# Altium integrated library Cypress USB Controllers.IntLib: 169 symbols (part 7 of 16)
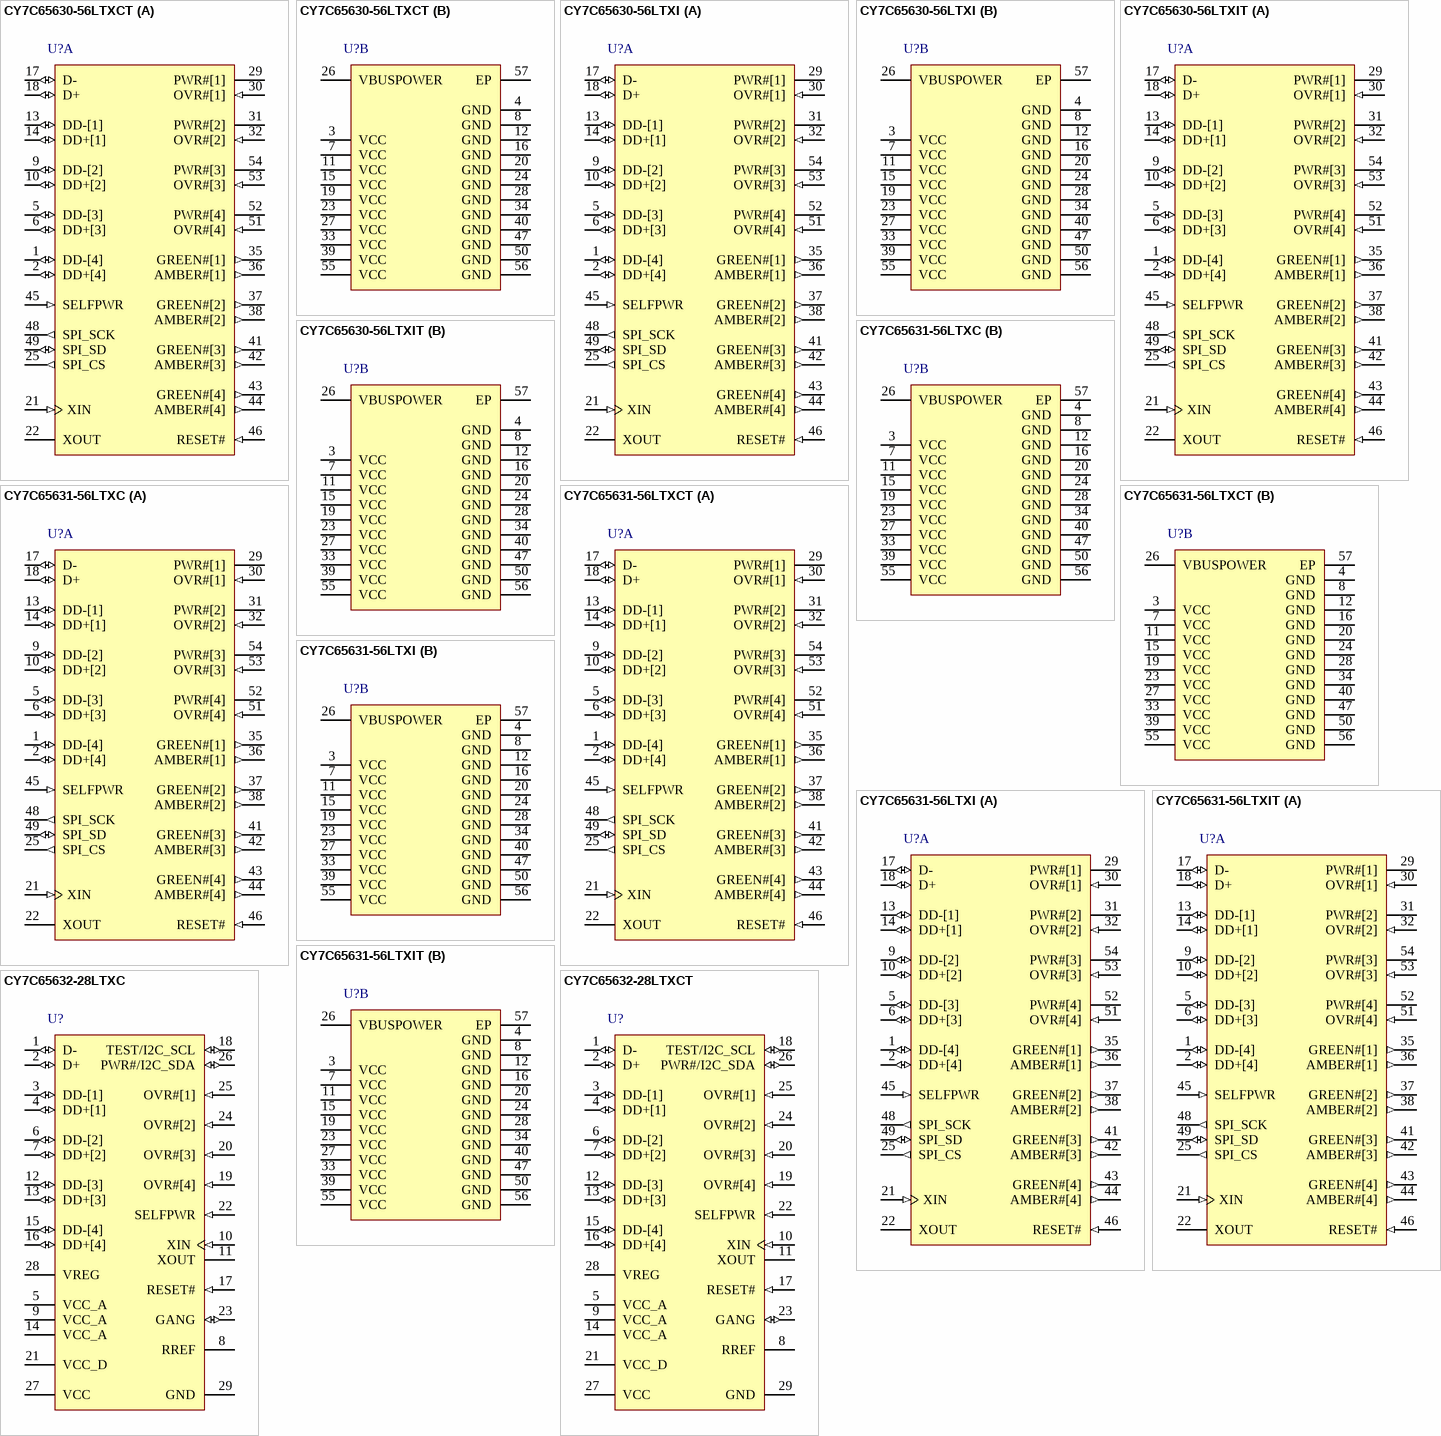
[diagram p28: symbols CY7C65630-56LTXCT to CY7C65632-28LTXCT]

## CY7C65631-56LTXCT
designator U?
EZ-USB HX2LP Lite(TM) Low Power USB 2.0 Hub Controller Family, 4 Hub Ports, 3.15 to 3.45 V, 0 to 70 degC, 56-Pin QFN (LTX56), Tape and Reel; Manufacturer: Cypress; PartNumber: CY7C65631-56LTXCT; Max. Operating Voltage (V): 3.45; Min. Operating Voltage (V): 3.15; No. of Hub Ports: 4; Single/Multi TT: Single; DatasheetVersion: Rev. *F; PackageVersion: Rev. *F; PackageReference: LTX56; PackageDescription: 56-Pin Sawn QFN, Body 8 x 8 mm, Pitch 0.5 mm; Supplier 1: Digi-Key; Supplier Part Number 1: CY7C65631-56LTXCT-ND; Supplier 2: Mouser; Supplier Part Number 2: 727-7C6563156LTXCT; Max. Operating Temp. (degreesC): 70; Min. Operating Temp. (degreesC): 0; Packing: Tape and Reel; RoHS: Pb-Free; Mounting Technology: Surface Mount; Code_JEDEC: MO-220; ComponentLink1Description: Manufacturer URL; ComponentLink1URL: http://www.cypress.com/; ComponentLink2Description: Datasheet; ComponentLink2URL: http://www.cypress.com/?docID=41770; ComponentLink3Description: Package Specification; ComponentLink3URL: http://www.cypress.com/?docID=45022
footprint CYP-LTX56-6100X6100TP_N (QFN, 56-Leads, Body 8.1x8.1mm, Pitch 0.5mm, Thermal Pad 6.1x6.1mm, IPC Medium Density)
footprint CYP-LTX56-6100X6100TP_L (QFN, 56-Leads, Body 8.1x8.1mm, Pitch 0.5mm, Thermal Pad 6.1x6.1mm, IPC High Density)
footprint CYP-LTX56-6100X6100TP_M (QFN, 56-Leads, Body 8.1x8.1mm, Pitch 0.5mm, Thermal Pad 6.1x6.1mm, IPC Low Density)
part A pins: 1 DD-[4] (io) "Downstream D- Signal.", 2 DD+[4] (io) "Downstream D+ Signal.", 5 DD-[3] (io) "Downstream D- Signal.", 6 DD+[3] (io) "Downstream D+ Signal.", 9 DD-[2] (io) "Downstream D- Signal.", 10 DD+[2] (io) "Downstream D+ Signal.", 13 DD-[1] (io) "Downstream D- Signal.", 14 DD+[1] (io) "Downstream D+ Signal.", 17 D- (io) "Upstream D- Signal.", 18 D+ (io) "Upstream D+ Signal.", 21 XIN (in) "24 MHz Crystal IN or external Clock Input.", 22 XOUT "24 MHz Crystal OUT. (NC if external clock is used)", 25 SPI_CS (out) "SPI Chip Select. Connect to CS pin of the EEPROM.", 29 PWR#[1] (hiz) "Power Switch Driver Output. Default is active LOW. Polarity is controlled through EEPROM.", 30 OVR#[1] (in) "Overcurrent Condition Detection Input. Default is active LOW. Polarity is controlled through EEPROM.", 31 PWR#[2] (hiz) "Power Switch Driver Output. Default is active LOW. Polarity is controlled through EEPROM.", 32 OVR#[2] (in) "Overcurrent Condition Detection Input. Default is active LOW. Polarity is controlled through EEPROM.", 35 GREEN#[1] (out) "LED. Driver output for amber LED. Port indicator support. Default is active LOW. Polarity is controlled through EEPROM.", 36 AMBER#[1] (out) "LED. Driver output for amber LED. Port indicator support. Default is active LOW. Polarity is controlled through EEPROM.", 37 GREEN#[2] (out) "LED. Driver output for green LED. Port indicator support. Default is active LOW. Polarity is controlled through EEPROM.", 38 AMBER#[2] (out) "LED. Driver output for amber LED. Port indicator support. Default is active LOW. Polarity is controlled through EEPROM.", 41 GREEN#[3] (out) "LED. Driver output for green LED. Port indicator support. Default is active LOW. Polarity is controlled through EEPROM.", 42 AMBER#[3] (out) "LED. Driver output for amber LED. Port indicator support. Default is active LOW. Polarity is controlled through EEPROM.", 43 GREEN#[4] (out) "LED. Driver output for green LED. Port indicator support.Default is active LOW. Polarity is controlled through EEPROM.", 44 AMBER#[4] (out) "LED. Driver output for amber LED. Port indicator support. Default is active LOW. Polarity is controlled through EEPROM.", 45 SELFPWR (in) "Self Power. Indicator for bus or self powered. 0 is bus powered, 1 is self powered.", 46 RESET# (in) "Active LOW Reset. This pin resets the entire chip. It is normally tied to VCC through a 100K resistor, and to GND through a 0.1 uF capacitor. Other than this, no other special power up procedure is required.", 48 SPI_SCK (out) "SPI Clock. Connect to EEPROM SCK pin.", 49 SPI_SD (io) "SPI Dataline Connect to GND with 15 kW resistor and to the Data I/O pin of the EEPROM.", 51 OVR#[4] (in) "Overcurrent Condition Detection Input. Default is Active LOW. Polarity is controlled through EEPROM.", 52 PWR#[4] (hiz) "Power Switch Driver Output. Default is active LOW. Polarity is controlled through EEPROM.", 53 OVR#[3] (in) "Overcurrent Condition Detection Input. Default is Active LOW. Polarity is controlled through EEPROM.", 54 PWR#[3] (hiz) "Power Switch Driver Output. Default is active LOW. Polarity is controlled through EEPROM."
part B pins: 3 VCC (power) "VCC. This signal provides power to the chip.", 4 GND (power) "GND. Connect to ground with as short a path as possible.", 7 VCC (power) "VCC. This signal provides power to the chip.", 8 GND (power) "GND. Connect to ground with as short a path as possible.", 11 VCC (power) "VCC. This signal provides power to the chip.", 12 GND (power) "GND. Connect to ground with as short a path as possible.", 15 VCC (power) "VCC. This signal provides power to the chip.", 16 GND (power) "GND. Connect to ground with as short a path as possible.", 19 VCC (power) "VCC. This signal provides power to the chip.", 20 GND (power) "GND. Connect to ground with as short a path as possible.", 23 VCC (power) "VCC. This signal provides power to the chip.", 24 GND (power) "GND. Connect to ground with as short a path as possible.", 26 VBUSPOWER (power) "VBUS. Connect to the VBUS pin of the upstream connector. This signal indicates to the hub that it is in a connected state, and may enable the D+ pull up resistor to indicate a connection. (The hub does so after the external (See Datasheet)", 27 VCC (power) "VCC. This signal provides power to the chip.", 28 GND (power) "GND. Connect to ground with as short a path as possible.", 33 VCC (power) "VCC. This signal provides power to the chip.", 34 GND (power) "GND. Connect to ground with as short a path as possible.", 39 VCC (power) "VCC. This signal provides power to the chip.", 40 GND (power) "GND. Connect to ground with as short a path as possible.", 47 GND (power) "GND. Connect to ground with as short a path as possible.", 50 GND (power) "GND. Connect to ground with as short a path as possible.", 55 VCC (power) "VCC. This signal provides power to the chip.", 56 GND (power) "GND. Connect to ground with as short a path as possible.", 57 EP

## CY7C65631-56LTXI
designator U?
EZ-USB HX2LP Lite(TM) Low Power USB 2.0 Hub Controller Family, 4 Hub Ports, 3.15 to 3.45 V, -40 to 85 degC, 56-Pin QFN (LTX56), Tube; Manufacturer: Cypress; PartNumber: CY7C65631-56LTXI; Max. Operating Voltage (V): 3.45; Min. Operating Voltage (V): 3.15; No. of Hub Ports: 4; Single/Multi TT: Single; DatasheetVersion: Rev. *F; PackageVersion: Rev. *F; PackageReference: LTX56; PackageDescription: 56-Pin Sawn QFN, Body 8 x 8 mm, Pitch 0.5 mm; Supplier 1: Digi-Key; Supplier Part Number 1: 428-3309-ND; Supplier 2: Newark; Supplier Part Number 2: 69W1656; Supplier 3: Mouser; Supplier Part Number 3: 727-CY7C65631-56LTXI; Max. Operating Temp. (degreesC): 85; Min. Operating Temp. (degreesC): -40; Packing: Tube; RoHS: Pb-Free; Mounting Technology: Surface Mount; Code_JEDEC: MO-220; ComponentLink1Description: Manufacturer URL; ComponentLink1URL: http://www.cypress.com/; ComponentLink2Description: Datasheet; ComponentLink2URL: http://www.cypress.com/?docID=41770; ComponentLink3Description: Package Specification; ComponentLink3URL: http://www.cypress.com/?docID=45022
footprint CYP-LTX56-6100X6100TP_N (QFN, 56-Leads, Body 8.1x8.1mm, Pitch 0.5mm, Thermal Pad 6.1x6.1mm, IPC Medium Density)
footprint CYP-LTX56-6100X6100TP_L (QFN, 56-Leads, Body 8.1x8.1mm, Pitch 0.5mm, Thermal Pad 6.1x6.1mm, IPC High Density)
footprint CYP-LTX56-6100X6100TP_M (QFN, 56-Leads, Body 8.1x8.1mm, Pitch 0.5mm, Thermal Pad 6.1x6.1mm, IPC Low Density)
part A pins: 1 DD-[4] (io) "Downstream D- Signal.", 2 DD+[4] (io) "Downstream D+ Signal.", 5 DD-[3] (io) "Downstream D- Signal.", 6 DD+[3] (io) "Downstream D+ Signal.", 9 DD-[2] (io) "Downstream D- Signal.", 10 DD+[2] (io) "Downstream D+ Signal.", 13 DD-[1] (io) "Downstream D- Signal.", 14 DD+[1] (io) "Downstream D+ Signal.", 17 D- (io) "Upstream D- Signal.", 18 D+ (io) "Upstream D+ Signal.", 21 XIN (in) "24 MHz Crystal IN or external Clock Input.", 22 XOUT "24 MHz Crystal OUT. (NC if external clock is used)", 25 SPI_CS (out) "SPI Chip Select. Connect to CS pin of the EEPROM.", 29 PWR#[1] (hiz) "Power Switch Driver Output. Default is active LOW. Polarity is controlled through EEPROM.", 30 OVR#[1] (in) "Overcurrent Condition Detection Input. Default is active LOW. Polarity is controlled through EEPROM.", 31 PWR#[2] (hiz) "Power Switch Driver Output. Default is active LOW. Polarity is controlled through EEPROM.", 32 OVR#[2] (in) "Overcurrent Condition Detection Input. Default is active LOW. Polarity is controlled through EEPROM.", 35 GREEN#[1] (out) "LED. Driver output for amber LED. Port indicator support. Default is active LOW. Polarity is controlled through EEPROM.", 36 AMBER#[1] (out) "LED. Driver output for amber LED. Port indicator support. Default is active LOW. Polarity is controlled through EEPROM.", 37 GREEN#[2] (out) "LED. Driver output for green LED. Port indicator support. Default is active LOW. Polarity is controlled through EEPROM.", 38 AMBER#[2] (out) "LED. Driver output for amber LED. Port indicator support. Default is active LOW. Polarity is controlled through EEPROM.", 41 GREEN#[3] (out) "LED. Driver output for green LED. Port indicator support. Default is active LOW. Polarity is controlled through EEPROM.", 42 AMBER#[3] (out) "LED. Driver output for amber LED. Port indicator support. Default is active LOW. Polarity is controlled through EEPROM.", 43 GREEN#[4] (out) "LED. Driver output for green LED. Port indicator support.Default is active LOW. Polarity is controlled through EEPROM.", 44 AMBER#[4] (out) "LED. Driver output for amber LED. Port indicator support. Default is active LOW. Polarity is controlled through EEPROM.", 45 SELFPWR (in) "Self Power. Indicator for bus or self powered. 0 is bus powered, 1 is self powered.", 46 RESET# (in) "Active LOW Reset. This pin resets the entire chip. It is normally tied to VCC through a 100K resistor, and to GND through a 0.1 uF capacitor. Other than this, no other special power up procedure is required.", 48 SPI_SCK (out) "SPI Clock. Connect to EEPROM SCK pin.", 49 SPI_SD (io) "SPI Dataline Connect to GND with 15 kW resistor and to the Data I/O pin of the EEPROM.", 51 OVR#[4] (in) "Overcurrent Condition Detection Input. Default is Active LOW. Polarity is controlled through EEPROM.", 52 PWR#[4] (hiz) "Power Switch Driver Output. Default is active LOW. Polarity is controlled through EEPROM.", 53 OVR#[3] (in) "Overcurrent Condition Detection Input. Default is Active LOW. Polarity is controlled through EEPROM.", 54 PWR#[3] (hiz) "Power Switch Driver Output. Default is active LOW. Polarity is controlled through EEPROM."
part B pins: 3 VCC (power) "VCC. This signal provides power to the chip.", 4 GND (power) "GND. Connect to ground with as short a path as possible.", 7 VCC (power) "VCC. This signal provides power to the chip.", 8 GND (power) "GND. Connect to ground with as short a path as possible.", 11 VCC (power) "VCC. This signal provides power to the chip.", 12 GND (power) "GND. Connect to ground with as short a path as possible.", 15 VCC (power) "VCC. This signal provides power to the chip.", 16 GND (power) "GND. Connect to ground with as short a path as possible.", 19 VCC (power) "VCC. This signal provides power to the chip.", 20 GND (power) "GND. Connect to ground with as short a path as possible.", 23 VCC (power) "VCC. This signal provides power to the chip.", 24 GND (power) "GND. Connect to ground with as short a path as possible.", 26 VBUSPOWER (power) "VBUS. Connect to the VBUS pin of the upstream connector. This signal indicates to the hub that it is in a connected state, and may enable the D+ pull up resistor to indicate a connection. (The hub does so after the external (See Datasheet)", 27 VCC (power) "VCC. This signal provides power to the chip.", 28 GND (power) "GND. Connect to ground with as short a path as possible.", 33 VCC (power) "VCC. This signal provides power to the chip.", 34 GND (power) "GND. Connect to ground with as short a path as possible.", 39 VCC (power) "VCC. This signal provides power to the chip.", 40 GND (power) "GND. Connect to ground with as short a path as possible.", 47 GND (power) "GND. Connect to ground with as short a path as possible.", 50 GND (power) "GND. Connect to ground with as short a path as possible.", 55 VCC (power) "VCC. This signal provides power to the chip.", 56 GND (power) "GND. Connect to ground with as short a path as possible.", 57 EP

## CY7C65631-56LTXIT
designator U?
EZ-USB HX2LP Lite(TM) Low Power USB 2.0 Hub Controller Family, 4 Hub Ports, 3.15 to 3.45 V, -40 to 85 degC, 56-Pin QFN (LTX56), Tape and Reel; Manufacturer: Cypress; PartNumber: CY7C65631-56LTXIT; Max. Operating Voltage (V): 3.45; Min. Operating Voltage (V): 3.15; No. of Hub Ports: 4; Single/Multi TT: Single; DatasheetVersion: Rev. *F; PackageVersion: Rev. *F; PackageReference: LTX56; PackageDescription: 56-Pin Sawn QFN, Body 8 x 8 mm, Pitch 0.5 mm; Supplier 1: Digi-Key; Supplier Part Number 1: CY7C65631-56LTXIT-ND; Supplier 2: Mouser; Supplier Part Number 2: 727-CY7C6563156LTXIT; Max. Operating Temp. (degreesC): 85; Min. Operating Temp. (degreesC): -40; Packing: Tape and Reel; RoHS: Pb-Free; Mounting Technology: Surface Mount; Code_JEDEC: MO-220; ComponentLink1Description: Manufacturer URL; ComponentLink1URL: http://www.cypress.com/; ComponentLink2Description: Datasheet; ComponentLink2URL: http://www.cypress.com/?docID=41770; ComponentLink3Description: Package Specification; ComponentLink3URL: http://www.cypress.com/?docID=45022
footprint CYP-LTX56-6100X6100TP_N (QFN, 56-Leads, Body 8.1x8.1mm, Pitch 0.5mm, Thermal Pad 6.1x6.1mm, IPC Medium Density)
footprint CYP-LTX56-6100X6100TP_L (QFN, 56-Leads, Body 8.1x8.1mm, Pitch 0.5mm, Thermal Pad 6.1x6.1mm, IPC High Density)
footprint CYP-LTX56-6100X6100TP_M (QFN, 56-Leads, Body 8.1x8.1mm, Pitch 0.5mm, Thermal Pad 6.1x6.1mm, IPC Low Density)
part A pins: 1 DD-[4] (io) "Downstream D- Signal.", 2 DD+[4] (io) "Downstream D+ Signal.", 5 DD-[3] (io) "Downstream D- Signal.", 6 DD+[3] (io) "Downstream D+ Signal.", 9 DD-[2] (io) "Downstream D- Signal.", 10 DD+[2] (io) "Downstream D+ Signal.", 13 DD-[1] (io) "Downstream D- Signal.", 14 DD+[1] (io) "Downstream D+ Signal.", 17 D- (io) "Upstream D- Signal.", 18 D+ (io) "Upstream D+ Signal.", 21 XIN (in) "24 MHz Crystal IN or external Clock Input.", 22 XOUT "24 MHz Crystal OUT. (NC if external clock is used)", 25 SPI_CS (out) "SPI Chip Select. Connect to CS pin of the EEPROM.", 29 PWR#[1] (hiz) "Power Switch Driver Output. Default is active LOW. Polarity is controlled through EEPROM.", 30 OVR#[1] (in) "Overcurrent Condition Detection Input. Default is active LOW. Polarity is controlled through EEPROM.", 31 PWR#[2] (hiz) "Power Switch Driver Output. Default is active LOW. Polarity is controlled through EEPROM.", 32 OVR#[2] (in) "Overcurrent Condition Detection Input. Default is active LOW. Polarity is controlled through EEPROM.", 35 GREEN#[1] (out) "LED. Driver output for amber LED. Port indicator support. Default is active LOW. Polarity is controlled through EEPROM.", 36 AMBER#[1] (out) "LED. Driver output for amber LED. Port indicator support. Default is active LOW. Polarity is controlled through EEPROM.", 37 GREEN#[2] (out) "LED. Driver output for green LED. Port indicator support. Default is active LOW. Polarity is controlled through EEPROM.", 38 AMBER#[2] (out) "LED. Driver output for amber LED. Port indicator support. Default is active LOW. Polarity is controlled through EEPROM.", 41 GREEN#[3] (out) "LED. Driver output for green LED. Port indicator support. Default is active LOW. Polarity is controlled through EEPROM.", 42 AMBER#[3] (out) "LED. Driver output for amber LED. Port indicator support. Default is active LOW. Polarity is controlled through EEPROM.", 43 GREEN#[4] (out) "LED. Driver output for green LED. Port indicator support.Default is active LOW. Polarity is controlled through EEPROM.", 44 AMBER#[4] (out) "LED. Driver output for amber LED. Port indicator support. Default is active LOW. Polarity is controlled through EEPROM.", 45 SELFPWR (in) "Self Power. Indicator for bus or self powered. 0 is bus powered, 1 is self powered.", 46 RESET# (in) "Active LOW Reset. This pin resets the entire chip. It is normally tied to VCC through a 100K resistor, and to GND through a 0.1 uF capacitor. Other than this, no other special power up procedure is required.", 48 SPI_SCK (out) "SPI Clock. Connect to EEPROM SCK pin.", 49 SPI_SD (io) "SPI Dataline Connect to GND with 15 kW resistor and to the Data I/O pin of the EEPROM.", 51 OVR#[4] (in) "Overcurrent Condition Detection Input. Default is Active LOW. Polarity is controlled through EEPROM.", 52 PWR#[4] (hiz) "Power Switch Driver Output. Default is active LOW. Polarity is controlled through EEPROM.", 53 OVR#[3] (in) "Overcurrent Condition Detection Input. Default is Active LOW. Polarity is controlled through EEPROM.", 54 PWR#[3] (hiz) "Power Switch Driver Output. Default is active LOW. Polarity is controlled through EEPROM."
part B pins: 3 VCC (power) "VCC. This signal provides power to the chip.", 4 GND (power) "GND. Connect to ground with as short a path as possible.", 7 VCC (power) "VCC. This signal provides power to the chip.", 8 GND (power) "GND. Connect to ground with as short a path as possible.", 11 VCC (power) "VCC. This signal provides power to the chip.", 12 GND (power) "GND. Connect to ground with as short a path as possible.", 15 VCC (power) "VCC. This signal provides power to the chip.", 16 GND (power) "GND. Connect to ground with as short a path as possible.", 19 VCC (power) "VCC. This signal provides power to the chip.", 20 GND (power) "GND. Connect to ground with as short a path as possible.", 23 VCC (power) "VCC. This signal provides power to the chip.", 24 GND (power) "GND. Connect to ground with as short a path as possible.", 26 VBUSPOWER (power) "VBUS. Connect to the VBUS pin of the upstream connector. This signal indicates to the hub that it is in a connected state, and may enable the D+ pull up resistor to indicate a connection. (The hub does so after the external (See Datasheet)", 27 VCC (power) "VCC. This signal provides power to the chip.", 28 GND (power) "GND. Connect to ground with as short a path as possible.", 33 VCC (power) "VCC. This signal provides power to the chip.", 34 GND (power) "GND. Connect to ground with as short a path as possible.", 39 VCC (power) "VCC. This signal provides power to the chip.", 40 GND (power) "GND. Connect to ground with as short a path as possible.", 47 GND (power) "GND. Connect to ground with as short a path as possible.", 50 GND (power) "GND. Connect to ground with as short a path as possible.", 55 VCC (power) "VCC. This signal provides power to the chip.", 56 GND (power) "GND. Connect to ground with as short a path as possible.", 57 EP

## CY7C65632-28LTXC
designator U?
HX2VL(TM) Very Low Power USB 2.0 Hub Controller, 4 Hub Ports, 0 to 70 degC, 28-Pin QFN (LTX28), Bulk; Manufacturer: Cypress; PartNumber: CY7C65632-28LTXC; Max. Operating Voltage (V): 5.25; Min. Operating Voltage (V): 3.15; No. of Hub Ports: 4; Single/Multi TT: Single; DatasheetVersion: Rev. *F; PackageVersion: Rev. **, 10/2010; PackageReference: LTX28; PackageDescription: 28-Pin Quad Flat No-Lead Package, Body 5 x 5 mm, Pitch 0.5 mm; Supplier 1: Digi-Key; Supplier Part Number 1: CY7C65632-28LTXC-ND; Supplier 2: Newark; Supplier Part Number 2: 66T6131; Supplier 3: Mouser; Supplier Part Number 3: 727-CY7C65632-28LTXC; Max. Operating Temp. (degreesC): 70; Min. Operating Temp. (degreesC): 0; Packing: Bulk; RoHS: Pb-Free; Mounting Technology: Surface Mount; Code_JEDEC: MO-220; ComponentLink1Description: Manufacturer URL; ComponentLink1URL: http://www.cypress.com/; ComponentLink2Description: Datasheet; ComponentLink2URL: http://www.cypress.com/?docID=39996; ComponentLink3Description: Package Specification; ComponentLink3URL: http://www.cypress.com/?docID=33735
footprint CYP-LTX28_N (QFN, 28-Leads, Body 5.1x5.1mm, Pitch 0.6mm, Thermal Pad 3.6X3.6mm, IPC Medium Density)
footprint CYP-LTX28_L (QFN, 28-Leads, Body 5.1x5.1mm, Pitch 0.6mm, Thermal Pad 3.6X3.6mm, IPC High Density)
footprint CYP-LTX28_M (QFN, 28-Leads, Body 5.1x5.1mm, Pitch 0.6mm, Thermal Pad 3.6X3.6mm, IPC Low Density)
pins: 1 D- (io) "Upstream D- Signal.", 2 D+ (io) "Upstream D+ Signal.", 3 DD-[1] (io) "Downstream D- Signal.", 4 DD+[1] (io) "Downstream D+ Signal.", 5 VCC_A (power) "VCC_A. 3.3 V analog power to the chip.", 6 DD-[2] (io) "Downstream D- Signal.", 7 DD+[2] (io) "Downstream D+ Signal.", 8 RREF "649 ohm resistor must be connected between RREF and Ground", 9 VCC_A (power) "VCC_A. 3.3 V analog power to the chip.", 10 XIN (in) "12 MHz crystal clock input, or 12 MHz clock input", 11 XOUT "12 MHz Crystal OUT", 12 DD-[3] (io) "Downstream D- Signal. NC in CY7C65634.", 13 DD+[3] (io) "Downstream D+ Signal. NC in CY7C65634.", 14 VCC_A (power) "VCC_A. 3.3 V analog power to the chip.", 15 DD-[4] (io) "Downstream D- Signal. NC in CY7C65634.", 16 DD+[4] (io) "Downstream D+ Signal. NC in CY7C65634.", 17 RESET# (in) "Active LOW Reset. External reset input, default pull high 10 kohm; When RESET = low, whole chip is reset to the initial state", 18 TEST/I2C_SCL (io) "Test: 0: Normal Operation & 1: Chip will be put in test mode I2C_SCL: I2C Clock pin.", 19 OVR#[4] (in) "Overcurrent Condition Detection Input. Default is Active LOW. NC in CY7C65634.", 20 OVR#[3] (in) "Overcurrent Condition Detection Input. Default is Active LOW. NC in CY7C65634.", 21 VCC_D (power) "VCC_D. 3.3 V digital power to the chip.", 22 SELFPWR (in) "Self Power. Input for selecting self/bus power. 0 is bus powered, 1 is self powered.", 23 GANG (io) "GANG. Default is input mode after power-on-reset. Gang Mode: Input:1 -> Output is 0 for Normal Operation and 1 for Suspend Individual Mode: Input:0 -> Output is 1 for Normal Operation and 0 for Suspend Refer to (See Datasheet)", 24 OVR#[2] (in) "Active LOW Overcurrent Condition Detection Input. Overcurrent condition detection input for Port 2.", 25 OVR#[1] (in) "Active LOW Overcurrent Condition Detection Input. Overcurrent condition detection input for Port 1.", 26 PWR#/I2C_SDA (io) "Power Switch Driver Output. Default is Active LOW. I2C_SDA: I2C Data pin.", 27 VCC (power) "VCC. 5 V input to the internal regulator; NC if using external regulator", 28 VREG (power) "VCC. 5-3.3 V regulator o/p during internal regulation; 3.3 V I/P if using external regulator", 29 GND (power) "Ground pin for the chip. It is the solderable exposed pad beneath the chip."

## CY7C65632-28LTXCT
designator U?
HX2VL(TM) Very Low Power USB 2.0 Hub Controller, 4 Hub Ports, 0 to 70 degC, 28-Pin QFN (LTX28), Tape and Reel; Manufacturer: Cypress; PartNumber: CY7C65632-28LTXCT; Max. Operating Voltage (V): 5.25; Min. Operating Voltage (V): 3.15; No. of Hub Ports: 4; Single/Multi TT: Single; DatasheetVersion: Rev. *F; PackageVersion: Rev. **, 10/2010; PackageReference: LTX28; PackageDescription: 28-Pin Quad Flat No-Lead Package, Body 5 x 5 mm, Pitch 0.5 mm; Supplier 1: Digi-Key; Supplier Part Number 1: 428-3156-2-ND; Supplier 2: Digi-Key; Supplier Part Number 2: 428-3156-1-ND; Supplier 3: Digi-Key; Supplier Part Number 3: 428-3156-6-ND; Supplier 4: Newark; Supplier Part Number 4: 66T6132; Supplier 5: Mouser; Supplier Part Number 5: 727-CY7C6563228LTXCT; Max. Operating Temp. (degreesC): 70; Min. Operating Temp. (degreesC): 0; Packing: Tape and Reel; RoHS: Pb-Free; Mounting Technology: Surface Mount; Code_JEDEC: MO-220; ComponentLink1Description: Manufacturer URL; ComponentLink1URL: http://www.cypress.com/; ComponentLink2Description: Datasheet; ComponentLink2URL: http://www.cypress.com/?docID=39996; ComponentLink3Description: Package Specification; ComponentLink3URL: http://www.cypress.com/?docID=33735
footprint CYP-LTX28_N (QFN, 28-Leads, Body 5.1x5.1mm, Pitch 0.6mm, Thermal Pad 3.6X3.6mm, IPC Medium Density)
footprint CYP-LTX28_L (QFN, 28-Leads, Body 5.1x5.1mm, Pitch 0.6mm, Thermal Pad 3.6X3.6mm, IPC High Density)
footprint CYP-LTX28_M (QFN, 28-Leads, Body 5.1x5.1mm, Pitch 0.6mm, Thermal Pad 3.6X3.6mm, IPC Low Density)
pins: 1 D- (io) "Upstream D- Signal.", 2 D+ (io) "Upstream D+ Signal.", 3 DD-[1] (io) "Downstream D- Signal.", 4 DD+[1] (io) "Downstream D+ Signal.", 5 VCC_A (power) "VCC_A. 3.3 V analog power to the chip.", 6 DD-[2] (io) "Downstream D- Signal.", 7 DD+[2] (io) "Downstream D+ Signal.", 8 RREF "649 ohm resistor must be connected between RREF and Ground", 9 VCC_A (power) "VCC_A. 3.3 V analog power to the chip.", 10 XIN (in) "12 MHz crystal clock input, or 12 MHz clock input", 11 XOUT "12 MHz Crystal OUT", 12 DD-[3] (io) "Downstream D- Signal. NC in CY7C65634.", 13 DD+[3] (io) "Downstream D+ Signal. NC in CY7C65634.", 14 VCC_A (power) "VCC_A. 3.3 V analog power to the chip.", 15 DD-[4] (io) "Downstream D- Signal. NC in CY7C65634.", 16 DD+[4] (io) "Downstream D+ Signal. NC in CY7C65634.", 17 RESET# (in) "Active LOW Reset. External reset input, default pull high 10 kohm; When RESET = low, whole chip is reset to the initial state", 18 TEST/I2C_SCL (io) "Test: 0: Normal Operation & 1: Chip will be put in test mode I2C_SCL: I2C Clock pin.", 19 OVR#[4] (in) "Overcurrent Condition Detection Input. Default is Active LOW. NC in CY7C65634.", 20 OVR#[3] (in) "Overcurrent Condition Detection Input. Default is Active LOW. NC in CY7C65634.", 21 VCC_D (power) "VCC_D. 3.3 V digital power to the chip.", 22 SELFPWR (in) "Self Power. Input for selecting self/bus power. 0 is bus powered, 1 is self powered.", 23 GANG (io) "GANG. Default is input mode after power-on-reset. Gang Mode: Input:1 -> Output is 0 for Normal Operation and 1 for Suspend Individual Mode: Input:0 -> Output is 1 for Normal Operation and 0 for Suspend Refer to (See Datasheet)", 24 OVR#[2] (in) "Active LOW Overcurrent Condition Detection Input. Overcurrent condition detection input for Port 2.", 25 OVR#[1] (in) "Active LOW Overcurrent Condition Detection Input. Overcurrent condition detection input for Port 1.", 26 PWR#/I2C_SDA (io) "Power Switch Driver Output. Default is Active LOW. I2C_SDA: I2C Data pin.", 27 VCC (power) "VCC. 5 V input to the internal regulator; NC if using external regulator", 28 VREG (power) "VCC. 5-3.3 V regulator o/p during internal regulation; 3.3 V I/P if using external regulator", 29 GND (power) "Ground pin for the chip. It is the solderable exposed pad beneath the chip."

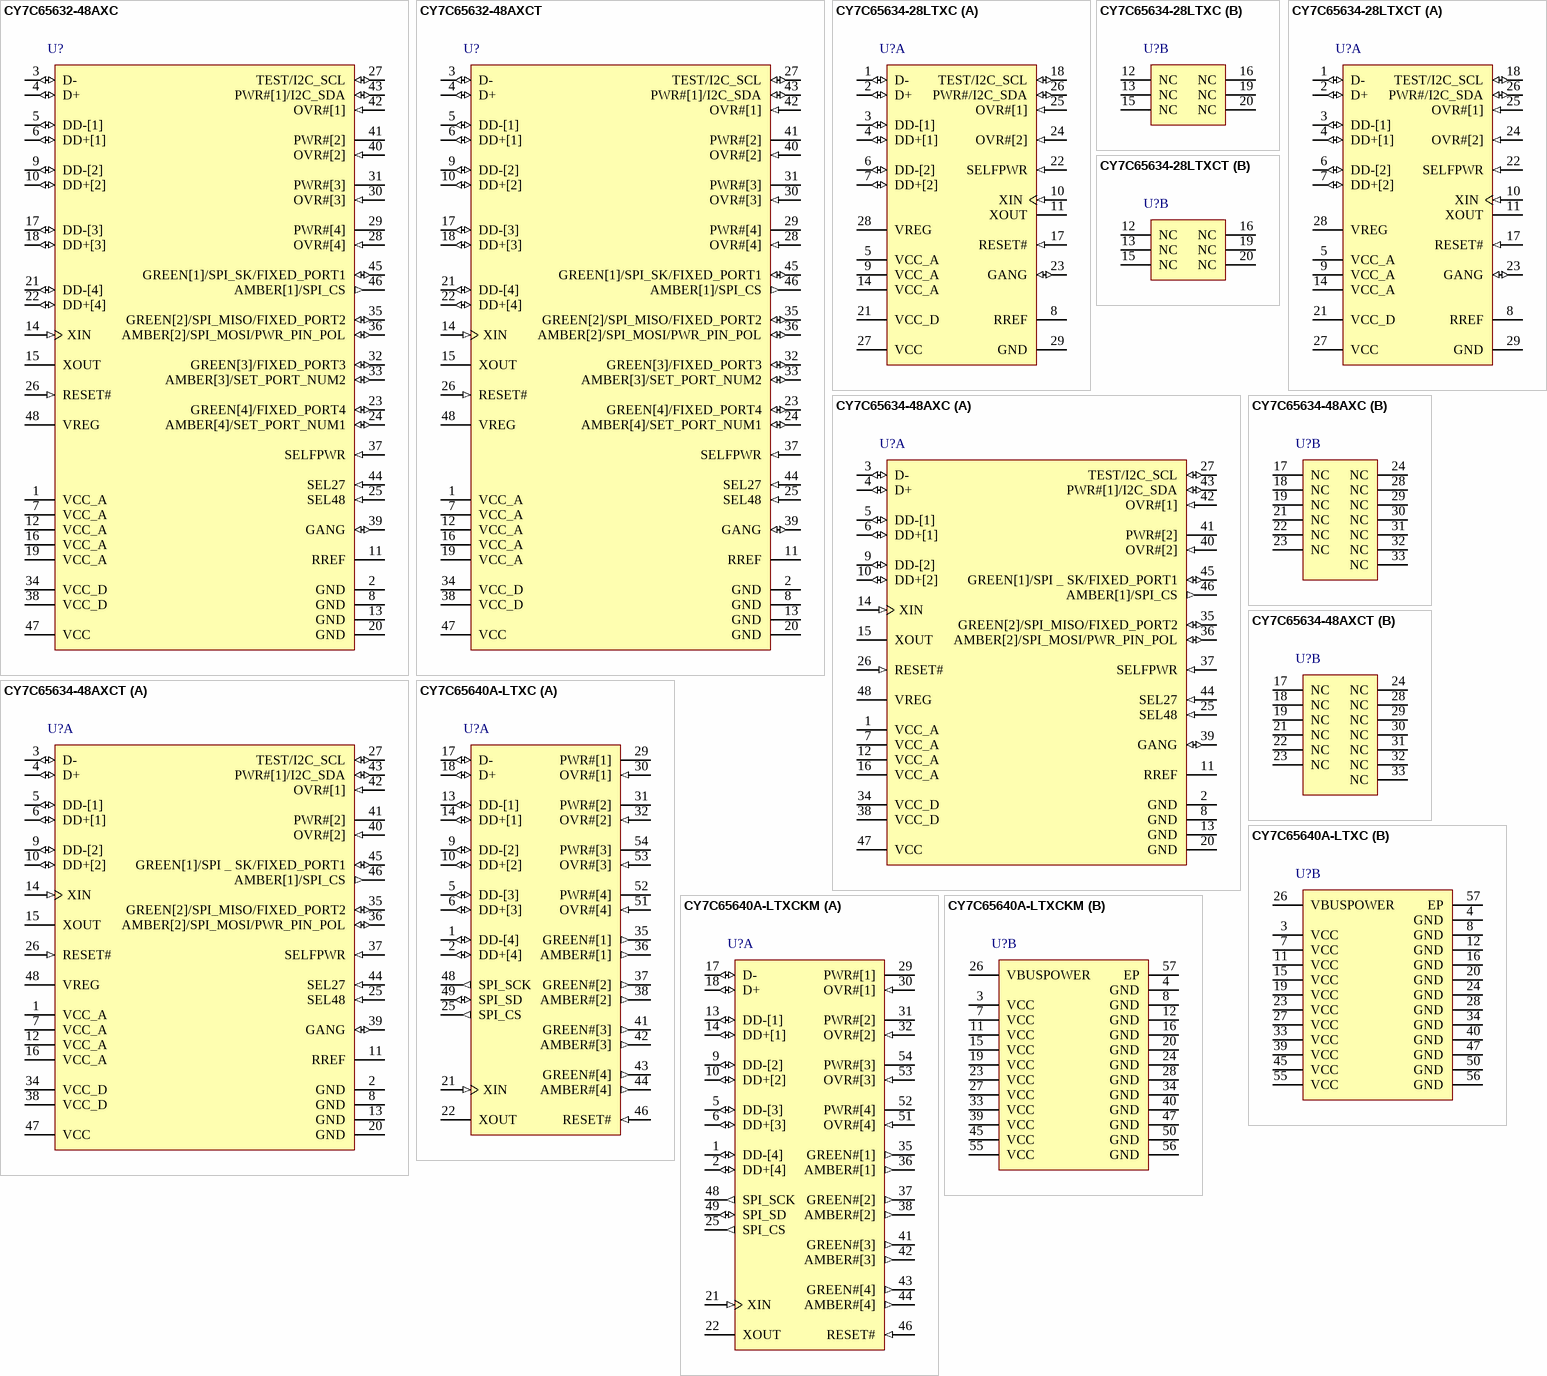
[diagram p6: symbols CY7C65632-48AXC to CY7C65640A-LTXCKM]

## CY7C65632-48AXC
designator U?
HX2VL(TM) Very Low Power USB 2.0 Hub Controller, 4 Hub Ports, 0 to 70 degC, 48-Pin TQFP (AX48), Bulk; Manufacturer: Cypress; PartNumber: CY7C65632-48AXC; Max. Operating Voltage (V): 5.25; Min. Operating Voltage (V): 3.15; No. of Hub Ports: 4; Single/Multi TT: Single; DatasheetVersion: Rev. *F; PackageVersion: Rev. **, 12/2000; PackageReference: AX48; PackageDescription: 48-Pin Thin Quad Flat Pack, Body 7 x 7 mm, Pitch 0.5 mm; Supplier 1: Digi-Key; Supplier Part Number 1: CY7C65632-48AXC-ND; Supplier 2: Farnell; Supplier Part Number 2: 2355888; Supplier 3: Newark; Supplier Part Number 3: 66T6133; Supplier 4: Mouser; Supplier Part Number 4: 727-CY7C65632-48AXC; Max. Operating Temp. (degreesC): 70; Min. Operating Temp. (degreesC): 0; Packing: Bulk; RoHS: Pb-Free; Mounting Technology: Surface Mount; ComponentLink1Description: Manufacturer URL; ComponentLink1URL: http://www.cypress.com/; ComponentLink2Description: Datasheet; ComponentLink2URL: http://www.cypress.com/?docID=39996; ComponentLink3Description: Package Specification; ComponentLink3URL: http://www.cypress.com/?docID=1350
footprint CYP-AX48_N (TQFP, 48-Leads, Body 7x7mm, Pitch 0.5mm, IPC Medium Density)
footprint CYP-AX48_L (TQFP, 48-Leads, Body 7x7mm, Pitch 0.5mm, IPC High Density)
footprint CYP-AX48_M (TQFP, 48-Leads, Body 7x7mm, Pitch 0.5mm, IPC High Density, IPC Low Density)
pins: 1 VCC_A (power) "3.3 V analog power to the chip.", 2 GND (power) "Connect to Ground with as short a path as possible.", 3 D- (io) "Upstream D- Signal.", 4 D+ (io) "Upstream D+ Signal.", 5 DD-[1] (io) "Downstream D- Signal. Downstream D- signal of port 1.", 6 DD+[1] (io) "Downstream D+ Signal. Downstream D+ signal of port 1.", 7 VCC_A (power) "3.3 V analog power to the chip.", 8 GND (power) "Connect to Ground with as short a path as possible.", 9 DD-[2] (io) "Downstream D- Signal. Downstream D- signal of port 2.", 10 DD+[2] (io) "Downstream D+ Signal. Downstream D+ signal of port 2.", 11 RREF "649 ohm resistor must be connected between RREF and Ground.", 12 VCC_A (power) "3.3 V analog power to the chip.", 13 GND (power) "Connect to Ground with as short a path as possible.", 14 XIN (in) "12 MHz crystal clock input, or 12/27/48 MHz clock input.", 15 XOUT "12 MHz Crystal OUT", 16 VCC_A (power) "3.3 V analog power to the chip.", 17 DD-[3] (io) "Downstream D- Signal. Downstream D- signal of port 3.", 18 DD+[3] (io) "Downstream D+ Signal. Downstream D+ signal of port 3.", 19 VCC_A (power) "3.3 V analog power to the chip. NC in CY7C65634.", 20 GND (power) "Connect to Ground with as short a path as possible.", 21 DD-[4] (io) "Downstream D- Signal. Downstream D- signal of port 4.", 22 DD+[4] (io) "Downstream D+ Signal. Downstream D+ signal of port 4.", 23 GREEN[4]/FIXED_PORT4 (io), 24 AMBER[4]/SET_PORT_NUM1 (io), 25 SEL48 (in) "Clock source selection inputs.", 26 RESET# (in) "Active LOW Reset. External reset input, default pull high 10 kW; When RESET = low, whole chip is reset to the initial state.", 27 TEST/I2C_SCL (io) "Test: 0: Normal Operation & 1: Chip will be put in test mode. I2C_SCL: Can be used as I2C clock pin to access I2C EEPROM.", 28 OVR#[4] (in) "Active LOW Overcurrent Condition Detection Input. Overcurrent condition detection input for Port 4. NC in CY7C65634.", 29 PWR#[4] (hiz) "Power Switch Driver Output. Default is Active LOW. NC in CY7C65634.", 30 OVR#[3] (in) "Active LOW Overcurrent Condition Detection Input. Overcurrent condition detection input for Port 3. NC in CY7C65634.", 31 PWR#[3] (hiz) "Power Switch Driver Output. Default is Active LOW. NC in CY7C65634.", 32 GREEN[3]/FIXED_PORT3 (io), 33 AMBER[3]/SET_PORT_NUM2 (io), 34 VCC_D (power) "3.3 V digital power to the chip.", 35 GREEN[2]/SPI_MISO/FIXED_PORT2 (io), 36 AMBER[2]/SPI_MOSI/PWR_PIN_POL (io), 37 SELFPWR (in) "Self Power. Input for selecting self/bus power. 0 is bus powered, 1 is self powered.", 38 VCC_D (power) "3.3 V digital power to the chip.", 39 GANG (io) "GANG. Default is input mode after power-on-reset. Gang Mode: Input:1 -> Output is 0 for Normal Operation and 1 for Suspend Individual Mode: Input:0 -> Output is 1 for Normal Operation and 0 for Suspend Refer to (See Datasheet)", 40 OVR#[2] (in) "Active LOW Overcurrent Condition Detection Input. Overcurrent condition detection input for Port 2.", 41 PWR#[2] (hiz) "Power Switch Driver Output. Default is Active LOW.", 42 OVR#[1] (in) "Active LOW Overcurrent Condition Detection Input. Overcurrent condition detection input for Port 1.", 43 PWR#[1]/I2C_SDA (io), 44 SEL27 (in) "Clock source selection inputs.", 45 GREEN[1]/SPI_SK/FIXED_PORT1 (io), 46 AMBER[1]/SPI_CS (out), 47 VCC (power) "5 V input to the internal regulator; NC if using external regulator", 48 VREG (power) "5-3.3 V regulator o/p during internal regulation; NC if using external regulator."

## CY7C65632-48AXCT
designator U?
HX2VL(TM) Very Low Power USB 2.0 Hub Controller, 4 Hub Ports, 0 to 70 degC, 48-Pin TQFP (AX48), Tape and Reel; Manufacturer: Cypress; PartNumber: CY7C65632-48AXCT; Max. Operating Voltage (V): 5.25; Min. Operating Voltage (V): 3.15; No. of Hub Ports: 4; Single/Multi TT: Single; DatasheetVersion: Rev. *F; PackageVersion: Rev. **, 12/2000; PackageReference: AX48; PackageDescription: 48-Pin Thin Quad Flat Pack, Body 7 x 7 mm, Pitch 0.5 mm; Supplier 1: Digi-Key; Supplier Part Number 1: 428-3155-2-ND; Supplier 2: Digi-Key; Supplier Part Number 2: 428-3155-1-ND; Supplier 3: Digi-Key; Supplier Part Number 3: 428-3155-6-ND; Supplier 4: Newark; Supplier Part Number 4: 66T6134; Supplier 5: Mouser; Supplier Part Number 5: 727-CY7C65632-48AXCT; Max. Operating Temp. (degreesC): 70; Min. Operating Temp. (degreesC): 0; Packing: Tape and Reel; RoHS: Pb-Free; Mounting Technology: Surface Mount; ComponentLink1Description: Manufacturer URL; ComponentLink1URL: http://www.cypress.com/; ComponentLink2Description: Datasheet; ComponentLink2URL: http://www.cypress.com/?docID=39996; ComponentLink3Description: Package Specification; ComponentLink3URL: http://www.cypress.com/?docID=1350
footprint CYP-AX48_N (TQFP, 48-Leads, Body 7x7mm, Pitch 0.5mm, IPC Medium Density)
footprint CYP-AX48_L (TQFP, 48-Leads, Body 7x7mm, Pitch 0.5mm, IPC High Density)
footprint CYP-AX48_M (TQFP, 48-Leads, Body 7x7mm, Pitch 0.5mm, IPC High Density, IPC Low Density)
pins: 1 VCC_A (power) "3.3 V analog power to the chip.", 2 GND (power) "Connect to Ground with as short a path as possible.", 3 D- (io) "Upstream D- Signal.", 4 D+ (io) "Upstream D+ Signal.", 5 DD-[1] (io) "Downstream D- Signal. Downstream D- signal of port 1.", 6 DD+[1] (io) "Downstream D+ Signal. Downstream D+ signal of port 1.", 7 VCC_A (power) "3.3 V analog power to the chip.", 8 GND (power) "Connect to Ground with as short a path as possible.", 9 DD-[2] (io) "Downstream D- Signal. Downstream D- signal of port 2.", 10 DD+[2] (io) "Downstream D+ Signal. Downstream D+ signal of port 2.", 11 RREF "649 ohm resistor must be connected between RREF and Ground.", 12 VCC_A (power) "3.3 V analog power to the chip.", 13 GND (power) "Connect to Ground with as short a path as possible.", 14 XIN (in) "12 MHz crystal clock input, or 12/27/48 MHz clock input.", 15 XOUT "12 MHz Crystal OUT", 16 VCC_A (power) "3.3 V analog power to the chip.", 17 DD-[3] (io) "Downstream D- Signal. Downstream D- signal of port 3.", 18 DD+[3] (io) "Downstream D+ Signal. Downstream D+ signal of port 3.", 19 VCC_A (power) "3.3 V analog power to the chip. NC in CY7C65634.", 20 GND (power) "Connect to Ground with as short a path as possible.", 21 DD-[4] (io) "Downstream D- Signal. Downstream D- signal of port 4.", 22 DD+[4] (io) "Downstream D+ Signal. Downstream D+ signal of port 4.", 23 GREEN[4]/FIXED_PORT4 (io), 24 AMBER[4]/SET_PORT_NUM1 (io), 25 SEL48 (in) "Clock source selection inputs.", 26 RESET# (in) "Active LOW Reset. External reset input, default pull high 10 kW; When RESET = low, whole chip is reset to the initial state.", 27 TEST/I2C_SCL (io) "Test: 0: Normal Operation & 1: Chip will be put in test mode. I2C_SCL: Can be used as I2C clock pin to access I2C EEPROM.", 28 OVR#[4] (in) "Active LOW Overcurrent Condition Detection Input. Overcurrent condition detection input for Port 4. NC in CY7C65634.", 29 PWR#[4] (hiz) "Power Switch Driver Output. Default is Active LOW. NC in CY7C65634.", 30 OVR#[3] (in) "Active LOW Overcurrent Condition Detection Input. Overcurrent condition detection input for Port 3. NC in CY7C65634.", 31 PWR#[3] (hiz) "Power Switch Driver Output. Default is Active LOW. NC in CY7C65634.", 32 GREEN[3]/FIXED_PORT3 (io), 33 AMBER[3]/SET_PORT_NUM2 (io), 34 VCC_D (power) "3.3 V digital power to the chip.", 35 GREEN[2]/SPI_MISO/FIXED_PORT2 (io), 36 AMBER[2]/SPI_MOSI/PWR_PIN_POL (io), 37 SELFPWR (in) "Self Power. Input for selecting self/bus power. 0 is bus powered, 1 is self powered.", 38 VCC_D (power) "3.3 V digital power to the chip.", 39 GANG (io) "GANG. Default is input mode after power-on-reset. Gang Mode: Input:1 -> Output is 0 for Normal Operation and 1 for Suspend Individual Mode: Input:0 -> Output is 1 for Normal Operation and 0 for Suspend Refer to (See Datasheet)", 40 OVR#[2] (in) "Active LOW Overcurrent Condition Detection Input. Overcurrent condition detection input for Port 2.", 41 PWR#[2] (hiz) "Power Switch Driver Output. Default is Active LOW.", 42 OVR#[1] (in) "Active LOW Overcurrent Condition Detection Input. Overcurrent condition detection input for Port 1.", 43 PWR#[1]/I2C_SDA (io), 44 SEL27 (in) "Clock source selection inputs.", 45 GREEN[1]/SPI_SK/FIXED_PORT1 (io), 46 AMBER[1]/SPI_CS (out), 47 VCC (power) "5 V input to the internal regulator; NC if using external regulator", 48 VREG (power) "5-3.3 V regulator o/p during internal regulation; NC if using external regulator."

## CY7C65634-28LTXC
designator U?
HX2VL(TM) Very Low Power USB 2.0 Hub Controller, 2 Hub Ports, 0 to 70 degC, 28-Pin QFN (LTX28), Bulk; Manufacturer: Cypress; PartNumber: CY7C65634-28LTXC; Max. Operating Voltage (V): 5.25; Min. Operating Voltage (V): 3.15; No. of Hub Ports: 2; Single/Multi TT: Single; DatasheetVersion: Rev. *F; PackageVersion: Rev. **, 10/2010; PackageReference: LTX28; PackageDescription: 28-Pin Quad Flat No-Lead Package, Body 5 x 5 mm, Pitch 0.5 mm; Supplier 1: Digi-Key; Supplier Part Number 1: CY7C65634-28LTXC-ND; Supplier 2: Newark; Supplier Part Number 2: 66T6135; Supplier 3: Mouser; Supplier Part Number 3: 727-CY7C65634-28LTXC; Max. Operating Temp. (degreesC): 70; Min. Operating Temp. (degreesC): 0; Packing: Bulk; RoHS: Pb-Free; Mounting Technology: Surface Mount; Code_JEDEC: MO-220; ComponentLink1Description: Manufacturer URL; ComponentLink1URL: http://www.cypress.com/; ComponentLink2Description: Datasheet; ComponentLink2URL: http://www.cypress.com/?docID=39996; ComponentLink3Description: Package Specification; ComponentLink3URL: http://www.cypress.com/?docID=33735
footprint CYP-LTX28_N (QFN, 28-Leads, Body 5.1x5.1mm, Pitch 0.6mm, Thermal Pad 3.6X3.6mm, IPC Medium Density)
footprint CYP-LTX28_L (QFN, 28-Leads, Body 5.1x5.1mm, Pitch 0.6mm, Thermal Pad 3.6X3.6mm, IPC High Density)
footprint CYP-LTX28_M (QFN, 28-Leads, Body 5.1x5.1mm, Pitch 0.6mm, Thermal Pad 3.6X3.6mm, IPC Low Density)
part A pins: 1 D- (io) "Upstream D- Signal.", 2 D+ (io) "Upstream D+ Signal.", 3 DD-[1] (io) "?Downstream D- Signal.", 4 DD+[1] (io) "Downstream D+ Signal.", 5 VCC_A (power) "VCC_A. 3.3 V analog power to the chip.", 6 DD-[2] (io) "Downstream D- Signal.", 7 DD+[2] (io) "Downstream D+ Signal.", 8 RREF "649 ohm resistor must be connected between RREF and Ground", 9 VCC_A (power) "VCC_A. 3.3 V analog power to the chip.", 10 XIN (in) "12 MHz crystal clock input, or 12 MHz clock input", 11 XOUT "12 MHz Crystal OUT", 14 VCC_A (power) "VCC_A. 3.3 V analog power to the chip.", 17 RESET# (in) "Active LOW Reset. External reset input, default pull high 10 kohm; When RESET = low, whole chip is reset to the initial state", 18 TEST/I2C_SCL (io) "?Test: 0: Normal Operation & 1: Chip will be put in test mode I2C_SCL: I2C Clock pin.", 21 VCC_D (power) "VCC_D. 3.3 V digital power to the chip.", 22 SELFPWR (in) "Self Power. Input for selecting self/bus power. 0 is bus powered, 1 is self powered.", 23 GANG (io) "GANG. Default is input mode after power-on-reset. Gang Mode: Input:1 -> Output is 0 for Normal Operation and 1 for Suspend Individual Mode: Input:0 -> Output is 1 for Normal Operation and 0 for Suspend Refer to (See Datasheet)", 24 OVR#[2] (in) "Active LOW Overcurrent Condition Detection Input. Overcurrent condition detection input for Port 2.", 25 OVR#[1] (in) "Active LOW Overcurrent Condition Detection Input. Overcurrent condition detection input for Port 1.", 26 PWR#/I2C_SDA (io) "Power Switch Driver Output. Default is Active LOW. I2C_SDA: I2C Data pin.", 27 VCC (power) "VCC. 5 V input to the internal regulator; NC if using external regulator", 28 VREG (power) "VCC. 5-3.3 V regulator o/p during internal regulation; 3.3 V I/P if using external regulator", 29 GND (power) "Ground pin for the chip. It is the solderable exposed pad beneath the chip."
part B pins: 12 NC "NC in CY7C65634.", 13 NC "NC in CY7C65634.", 15 NC "NC in CY7C65634.", 16 NC "NC in CY7C65634.", 19 NC "NC in CY7C65634.", 20 NC "NC in CY7C65634."

## CY7C65634-28LTXCT
designator U?
HX2VL(TM) Very Low Power USB 2.0 Hub Controller, 2 Hub Ports, 0 to 70 degC, 28-Pin QFN (LTX28), Tape and Reel; Manufacturer: Cypress; PartNumber: CY7C65634-28LTXCT; Max. Operating Voltage (V): 5.25; Min. Operating Voltage (V): 3.15; No. of Hub Ports: 2; Single/Multi TT: Single; DatasheetVersion: Rev. *F; PackageVersion: Rev. **, 10/2010; PackageReference: LTX28; PackageDescription: 28-Pin Quad Flat No-Lead Package, Body 5 x 5 mm, Pitch 0.5 mm; Supplier 1: Digi-Key; Supplier Part Number 1: 428-3154-2-ND; Supplier 2: Digi-Key; Supplier Part Number 2: 428-3154-1-ND; Supplier 3: Digi-Key; Supplier Part Number 3: 428-3154-6-ND; Supplier 4: Mouser; Supplier Part Number 4: 727-CY7C6563428LTXCT; Max. Operating Temp. (degreesC): 70; Min. Operating Temp. (degreesC): 0; Packing: Tape and Reel; RoHS: Pb-Free; Mounting Technology: Surface Mount; Code_JEDEC: MO-220; ComponentLink1Description: Manufacturer URL; ComponentLink1URL: http://www.cypress.com/; ComponentLink2Description: Datasheet; ComponentLink2URL: http://www.cypress.com/?docID=39996; ComponentLink3Description: Package Specification; ComponentLink3URL: http://www.cypress.com/?docID=33735
footprint CYP-LTX28_N (QFN, 28-Leads, Body 5.1x5.1mm, Pitch 0.6mm, Thermal Pad 3.6X3.6mm, IPC Medium Density)
footprint CYP-LTX28_L (QFN, 28-Leads, Body 5.1x5.1mm, Pitch 0.6mm, Thermal Pad 3.6X3.6mm, IPC High Density)
footprint CYP-LTX28_M (QFN, 28-Leads, Body 5.1x5.1mm, Pitch 0.6mm, Thermal Pad 3.6X3.6mm, IPC Low Density)
part A pins: 1 D- (io) "Upstream D- Signal.", 2 D+ (io) "Upstream D+ Signal.", 3 DD-[1] (io) "?Downstream D- Signal.", 4 DD+[1] (io) "Downstream D+ Signal.", 5 VCC_A (power) "VCC_A. 3.3 V analog power to the chip.", 6 DD-[2] (io) "Downstream D- Signal.", 7 DD+[2] (io) "Downstream D+ Signal.", 8 RREF "649 ohm resistor must be connected between RREF and Ground", 9 VCC_A (power) "VCC_A. 3.3 V analog power to the chip.", 10 XIN (in) "12 MHz crystal clock input, or 12 MHz clock input", 11 XOUT "12 MHz Crystal OUT", 14 VCC_A (power) "VCC_A. 3.3 V analog power to the chip.", 17 RESET# (in) "Active LOW Reset. External reset input, default pull high 10 kohm; When RESET = low, whole chip is reset to the initial state", 18 TEST/I2C_SCL (io) "?Test: 0: Normal Operation & 1: Chip will be put in test mode I2C_SCL: I2C Clock pin.", 21 VCC_D (power) "VCC_D. 3.3 V digital power to the chip.", 22 SELFPWR (in) "Self Power. Input for selecting self/bus power. 0 is bus powered, 1 is self powered.", 23 GANG (io) "GANG. Default is input mode after power-on-reset. Gang Mode: Input:1 -> Output is 0 for Normal Operation and 1 for Suspend Individual Mode: Input:0 -> Output is 1 for Normal Operation and 0 for Suspend Refer to (See Datasheet)", 24 OVR#[2] (in) "Active LOW Overcurrent Condition Detection Input. Overcurrent condition detection input for Port 2.", 25 OVR#[1] (in) "Active LOW Overcurrent Condition Detection Input. Overcurrent condition detection input for Port 1.", 26 PWR#/I2C_SDA (io) "Power Switch Driver Output. Default is Active LOW. I2C_SDA: I2C Data pin.", 27 VCC (power) "VCC. 5 V input to the internal regulator; NC if using external regulator", 28 VREG (power) "VCC. 5-3.3 V regulator o/p during internal regulation; 3.3 V I/P if using external regulator", 29 GND (power) "Ground pin for the chip. It is the solderable exposed pad beneath the chip."
part B pins: 12 NC "NC in CY7C65634.", 13 NC "NC in CY7C65634.", 15 NC "NC in CY7C65634.", 16 NC "NC in CY7C65634.", 19 NC "NC in CY7C65634.", 20 NC "NC in CY7C65634."

## CY7C65634-48AXC
designator U?
HX2VL(TM) Very Low Power USB 2.0 Hub Controller, 2 Hub Ports, 0 to 70 degC, 48-Pin TQFP (AX48), Bulk; Manufacturer: Cypress; PartNumber: CY7C65634-48AXC; Max. Operating Voltage (V): 5.25; Min. Operating Voltage (V): 3.15; No. of Hub Ports: 2; Single/Multi TT: Single; DatasheetVersion: Rev. *F; PackageVersion: Rev. **, 12/2000; PackageReference: AX48; PackageDescription: 48-Pin Thin Quad Flat Pack, Body 7 x 7 mm, Pitch 0.5 mm; Supplier 1: Digi-Key; Supplier Part Number 1: CY7C65634-48AXC-ND; Supplier 2: Mouser; Supplier Part Number 2: 727-CY7C65634-48AXC; Max. Operating Temp. (degreesC): 70; Min. Operating Temp. (degreesC): 0; Packing: Bulk; RoHS: Pb-Free; Mounting Technology: Surface Mount; ComponentLink1Description: Manufacturer URL; ComponentLink1URL: http://www.cypress.com/; ComponentLink2Description: Datasheet; ComponentLink2URL: http://www.cypress.com/?docID=39996; ComponentLink3Description: Package Specification; ComponentLink3URL: http://www.cypress.com/?docID=1350
footprint CYP-AX48_N (TQFP, 48-Leads, Body 7x7mm, Pitch 0.5mm, IPC Medium Density)
footprint CYP-AX48_L (TQFP, 48-Leads, Body 7x7mm, Pitch 0.5mm, IPC High Density)
footprint CYP-AX48_M (TQFP, 48-Leads, Body 7x7mm, Pitch 0.5mm, IPC High Density, IPC Low Density)
part A pins: 1 VCC_A (power) "3.3 V analog power to the chip.", 2 GND (power) "Connect to Ground with as short a path as possible.", 3 D- (io) "Upstream D- Signal.", 4 D+ (io) "Upstream D+ Signal.", 5 DD-[1] (io) "Downstream D- Signal. Downstream D- signal of port 1.", 6 DD+[1] (io) "Downstream D+ Signal. Downstream D+ signal of port 1.", 7 VCC_A (power) "3.3 V analog power to the chip.", 8 GND (power) "Connect to Ground with as short a path as possible.", 9 DD-[2] (io) "Downstream D- Signal. Downstream D- signal of port 2.", 10 DD+[2] (io) "Downstream D+ Signal. Downstream D+ signal of port 2.", 11 RREF "649 ohm resistor must be connected between RREF and Ground.", 12 VCC_A (power) "3.3 V analog power to the chip.", 13 GND (power) "Connect to Ground with as short a path as possible.", 14 XIN (in) "12 MHz crystal clock input, or 12/27/48 MHz clock input.", 15 XOUT "12 MHz Crystal OUT", 16 VCC_A (power) "3.3 V analog power to the chip.", 20 GND (power) "Connect to Ground with as short a path as possible.", 25 SEL48 (in) "Clock source selection inputs.", 26 RESET# (in) "Active LOW Reset. External reset input, default pull high 10 kW; When RESET = low, whole chip is reset to the initial state.", 27 TEST/I2C_SCL (io) "Test: 0: Normal Operation & 1: Chip will be put in test mode. I2C_SCL: Can be used as I2C clock pin to access I2C EEPROM.", 34 VCC_D (power) "3.3 V digital power to the chip.", 35 GREEN[2]/SPI_MISO/FIXED_PORT2 (io), 36 AMBER[2]/SPI_MOSI/PWR_PIN_POL (io), 37 SELFPWR (in) "Self Power. Input for selecting self/bus power. 0 is bus powered, 1 is self powered.", 38 VCC_D (power) "3.3 V digital power to the chip.", 39 GANG (io) "GANG. Default is input mode after power-on-reset. Gang Mode: Input:1 -> Output is 0 for Normal Operation and 1 for Suspend Individual Mode: Input:0 -> Output is 1 for Normal Operation and 0 for Suspend Refer to (See Datasheet)", 40 OVR#[2] (in) "Active LOW Overcurrent Condition Detection Input. Overcurrent condition detection input for Port 2.", 41 PWR#[2] (hiz) "Power Switch Driver Output. Default is Active LOW.", 42 OVR#[1] (in) "Active LOW Overcurrent Condition Detection Input. Overcurrent condition detection input for Port 1.", 43 PWR#[1]/I2C_SDA (io), 44 SEL27 (in) "Clock source selection inputs.", 45 GREEN[1]/SPI _ SK/FIXED_PORT1 (io), 46 AMBER[1]/SPI_CS (out), 47 VCC (power) "5 V input to the internal regulator; NC if using external regulator", 48 VREG (power) "5-3.3 V regulator o/p during internal regulation; NC if using external regulator."
part B pins: 17 NC, 18 NC, 19 NC, 21 NC, 22 NC, 23 NC, 24 NC, 28 NC, 29 NC, 30 NC, 31 NC, 32 NC, 33 NC